# EAGLE library part 87264-34 (library con-molex-milli-grid)
RECEPTACAL
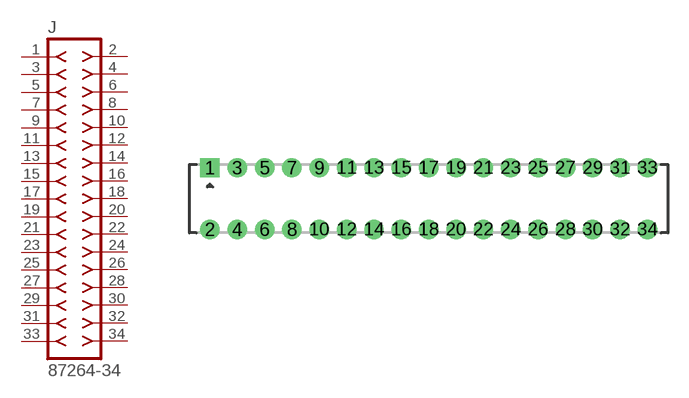
[diagram p218: symbol with the pads of 87264-34; footprint 87264-34]

Designator prefix J

## 87264-34  [87264-34]
1  1  pas
2  2  pas
3  3  pas
4  4  pas
5  5  pas
6  6  pas
7  7  pas
8  8  pas
9  9  pas
10  10  pas
11  11  pas
12  12  pas
13  13  pas
14  14  pas
15  15  pas
16  16  pas
17  17  pas
18  18  pas
19  19  pas
20  20  pas
21  21  pas
22  22  pas
23  23  pas
24  24  pas
25  25  pas
26  26  pas
27  27  pas
28  28  pas
29  29  pas
30  30  pas
31  31  pas
32  32  pas
33  33  pas
34  34  pas

## Footprint 87264-34 (pad centres in mm)
RECEPTACAL Dual Row, Side Entry
drill 0.914 square: 1 -16,2.25
drill 0.914: 2 -16,-2.25; 3 -14,2.25; 4 -14,-2.25; 5 -12,2.25; 6 -12,-2.25; 7 -10,2.25; 8 -10,-2.25; 9 -8,2.25; 10 -8,-2.25; 11 -6,2.25; 12 -6,-2.25; 13 -4,2.25; 14 -4,-2.25; 15 -2,2.25; 16 -2,-2.25; 17 0,2.25; 18 0,-2.25; 19 2,2.25; 20 2,-2.25; 21 4,2.25; 22 4,-2.25; 23 6,2.25; 24 6,-2.25; 25 8,2.25; 26 8,-2.25; 27 10,2.25; 28 10,-2.25; 29 12,2.25; 30 12,-2.25; 31 14,2.25; 32 14,-2.25; 33 16,2.25; 34 16,-2.25